# EAGLE library part TS5A23159 (library parts)
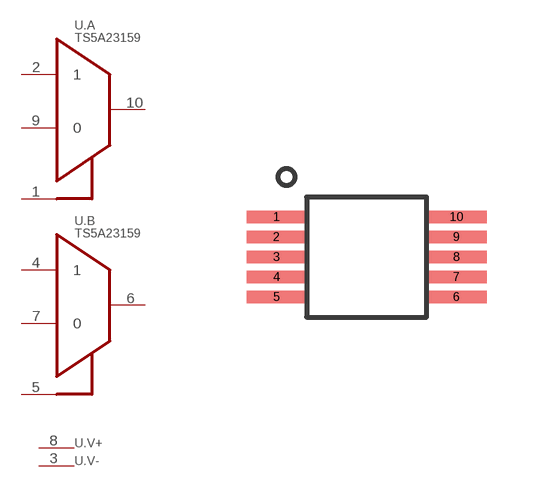
[diagram p22: symbol with the pads of MSOP-10; footprint MSOP-10]

Designator prefix U; gates .A=MUX2:1 .B=MUX2:1 .V+=V+ .V-=V-

## TS5A23159  [MSOP-10]
1  .A:SEL  in
2  .A:1  pas
3  .V-:V-  pwr
4  .B:1  pas
5  .B:SEL  in
6  .B:C  pas
7  .B:0  pas
8  .V+:V+  pwr
9  .A:0  pas
10  .A:C  pas

## Footprint MSOP-10 (pad centres in mm)
smd 1.5 x 0.32: 1 -2.25,1; 2 -2.25,0.5; 3 -2.25,0; 4 -2.25,-0.5; 5 -2.25,-1; 6 2.25,-1; 7 2.25,-0.5; 8 2.25,0; 9 2.25,0.5; 10 2.25,1